# Altium schematic symbol library retroBreadboard_v1i1.SchLib: 11 symbols
Pins are listed as number, name and electrical type; pins without a type are passive.

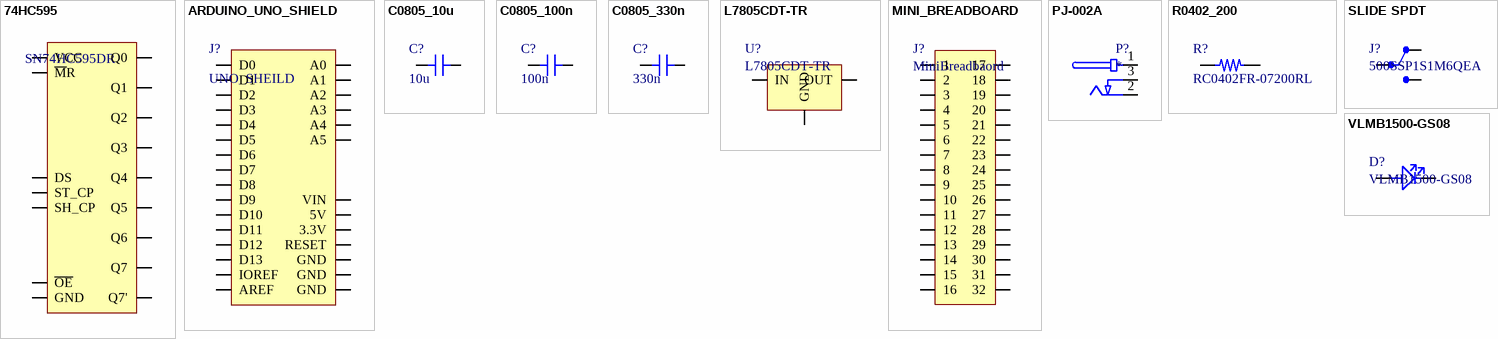
[diagram p0: symbols 74HC595 to VLMB1500-GS08]

## 74HC595
designator U?, comment SN74HC595DR
IC, SM, LOGIC, 74HC, REGISTER; Manufacturer: Texas Instruments; Direction: Unidirectional; Max Supply Voltage: 6V; Min Supply Voltage: 2V; Propagation Delay: 250ns; Logic Function: Shift Register; Number of Elements: 1; Operating Supply Voltage: 5V; Frequency: 42MHz; Number of Circuits: 4; Number of Bits: 8; Number of Output Lines: 10; Max Input Current: 1uA; Quiescent Current: 8uA; Supplier 1: Digi-Key; Manufacturer Part Number: SN74HC595DR; Stock 1: 53061; Mount: Surface Mount; Case/Package: SOIC; Number of Pins: 16; Weight: 0.004998oz; Contact Plating: Gold; Min Operating Temperature: -40°C; Max Operating Temperature: 85°C; Packaging: Tape and Reel; Package Quantity: 2500; Number of Bits per Element: 8; Turn-On Delay Time: 250ns; Termination: SMD/SMT; Length: 9.9mm; Height: 1.58mm; Width: 3.91mm; Radiation Hardening: No; REACH SVHC: No SVHC; Lead Free: Lead Free; ComponentLink1URL: http://www.ti.com/lit/ds/symlink/sn74hc595.pdf; ComponentLink1Description: http://www.ti.com/lit/ds/symlink/sn74hc595.pdf; ComponentLink2URL: http://www.farnell.com/datasheets/1831198.pdf; ComponentLink2Description: http://www.farnell.com/datasheets/1831198.pdf; ComponentLink3URL: http://www.farnell.com/datasheets/1886142.pdf; ComponentLink3Description: http://www.farnell.com/datasheets/1886142.pdf; ComponentLink4URL: https://www.verical.com/server-webapp/html/getDatasheet?partID=134875; ComponentLink4Description: https://www.verical.com/server-webapp/html/getDatasheet?partID=134875; ComponentLink5URL: http://www.farnell.com/datasheets/1905810.pdf; ComponentLink5Description: http://www.farnell.com/datasheets/1905810.pdf; ComponentLink6URL: http://www.ti.com/general/docs/lit/getliterature.tsp?genericPartNumber=SN54HC595-SP&&fileType=pdf; ComponentLink6Description: http://www.ti.com/general/docs/lit/getliterature.tsp?genericPartNumber=SN54HC595-SP&&fileType=pdf; ComponentLink7URL: http://www.jameco.com/Jameco/Products/ProdDS/916385.pdf; ComponentLink7Description: http://www.jameco.com/Jameco/Products/ProdDS/916385.pdf; ComponentLink8URL: http://www.farnell.com/datasheets/2020588.pdf; ComponentLink8Description: http://www.farnell.com/datasheets/2020588.pdf; ComponentLink9URL: http://datasheet.iiic.cc/texas_instruments/SN74HC595DR.pdf; ComponentLink9Description: http://datasheet.iiic.cc/texas_instruments/SN74HC595DR.pdf; Supplier Part Number 1: 296-14857-6-ND; Pricing 1: 1=0.51, 10=0.433, 100=0.323, 500=0.2538, 1000=0.19611 (USD)
footprint SOIC16
pins: 1 Q1, 2 Q2, 3 Q3, 4 Q4, 5 Q5, 6 Q6, 7 Q7, 8 GND, 9 Q7', 10 ~{M}R, 11 SH_CP, 12 ST_CP, 13 ~{OE}, 14 DS, 15 Q0, 16 VCC

## ARDUINO_UNO_SHIELD
designator J?, comment UNO_SHEILD
footprint ARDUINO_UNO_SHIELD
pins: 1 D0, 2 D1, 3 D2, 4 D3, 5 D4, 6 D5, 7 D6, 8 D7, 9 D8, 10 D9, 11 D10, 12 D11, 13 D12, 14 D13, 15 GND, 16 AREF, 17 A5, 18 A4, 19 A3, 20 A2, 21 A1, 22 A0, 23 VIN, 24 GND, 25 GND, 26 5V, 27 3.3V, 28 RESET, 29 IOREF

## C0805_10u
designator C?, comment 10u
Manufacturer: Samsung; Manufacturer Part Number: CL21A106KQFNNNG; Material: Ceramic; Tolerance: 10%; Capacitance: 10uF; Voltage Rating: 6.3V; Dielectric: X5R; Supplier 1: Digi-Key; Stock 1: 53378; RoHS: Yes; Mount: Surface Mount; Case/Package: 0805; Case Code (Metric): 2012; Case Code (Imperial): 0805; Min Operating Temperature: -55°C; Max Operating Temperature: 85°C; Packaging: Tape and Reel; Package Quantity: 3000; Voltage: 6.3V; Length: 2mm; Height: 1.25mm; Width: 0.049inch; Thickness: 0.053inch; Depth: 1.25mm; Lead Free: Lead Free; ComponentLink1URL: http://www.samsungsem.com/kr/support/product-search/mlcc/CL21A106KQFNNNG.jsp?src-supplier=Digi-Key; ComponentLink1Description: http://www.samsungsem.com/kr/support/product-search/mlcc/CL21A106KQFNNNG.jsp?src-supplier=Digi-Key; ComponentLink2URL: https://produktinfo.conrad.com/datenblaetter/450000-474999/454985-da-01-en-VS_KONDENSATOR_0805.pdf?src-supplier=Conrad; ComponentLink2Description: https://produktinfo.conrad.com/datenblaetter/450000-474999/454985-da-01-en-VS_KONDENSATOR_0805.pdf?src-supplier=Conrad; Supplier Part Number 1: 1276-6457-1-ND; Pricing 1: 1 = 0.13000, 10 = 0.09600, 100 = 0.04270, 500 = 0.03054, 1000 = 0.02399 (USD)
footprint C0805
pins: 1, 2

## C0805_100n
designator C?, comment 100n
Manufacturer: Samsung; Manufacturer Part Number: CL21F104ZBCNNNC; Material: Ceramic; Capacitance: 100nF; Tolerance: 80%; Dielectric: Y5V; Voltage Rating: 50V; Supplier 1: Digi-Key; Stock 1: 117334; RoHS: Yes; Mount: Surface Mount; Case/Package: 0805; Case Code (Metric): 2012; Case Code (Imperial): 0805; Min Operating Temperature: -30°C; Max Operating Temperature: 85°C; Packaging: Tape and Reel; Package Quantity: 1; Length: 2mm; Height: 0.85mm; Width: 0.049inch; Thickness: 0.037inch; Depth: 1.25mm; Radiation Hardening: No; ComponentLink1URL: https://www.verical.com/server-webapp/html/getDatasheet?partID=466953&src-supplier=Verical; ComponentLink1Description: https://www.verical.com/server-webapp/html/getDatasheet?partID=466953&src-supplier=Verical; ComponentLink2URL: https://produktinfo.conrad.com/datenblaetter/450000-474999/454191-da-01-en-VS_KONDENSATOR_0805.pdf?src-supplier=Conrad; ComponentLink2Description: https://produktinfo.conrad.com/datenblaetter/450000-474999/454191-da-01-en-VS_KONDENSATOR_0805.pdf?src-supplier=Conrad; Supplier Part Number 1: 1276-1007-1-ND; Pricing 1: 1 = 0.10000, 10 = 0.04400, 100 = 0.01950, 500 = 0.01390, 1000 = 0.01092 (USD)
footprint C0805
pins: 1, 2

## C0805_330n
designator C?, comment 330n
Manufacturer: Samsung; Manufacturer Part Number: CL21B334KAFNNNG; Material: Ceramic; Tolerance: 10%; Capacitance: 330nF; Voltage Rating: 25V; Dielectric: X7R; Supplier 1: Digi-Key; Stock 1: 834; RoHS: Yes; Mount: Surface Mount; Case/Package: 0805; Case Code (Metric): 2012; Case Code (Imperial): 0805; Min Operating Temperature: -55°C; Max Operating Temperature: 125°C; Package Quantity: 3000; Packaging: Tape and Reel; Voltage: 25V; Length: 2mm; Height: 1.25mm; Width: 0.049inch; Thickness: 0.053inch; Depth: 1.25mm; Lead Free: Lead Free; ComponentLink1URL: https://www.distrelec.biz/Web/Downloads/_e/ng/MLCC_CatalogDownload2013_ENG.pdf?mime=application%2Fpdf&src-supplier=Distrelec; ComponentLink1Description: https://www.distrelec.biz/Web/Downloads/_e/ng/MLCC_CatalogDownload2013_ENG.pdf?mime=application%2Fpdf&src-supplier=Distrelec; ComponentLink2URL: http://www.samsungsem.com/global/support/library/product-catalog/__icsFiles/afieldfile/2014/11/13/MLCC.pdf?src-supplier=Digi-Key; ComponentLink2Description: http://www.samsungsem.com/global/support/library/product-catalog/__icsFiles/afieldfile/2014/11/13/MLCC.pdf?src-supplier=Digi-Key; ComponentLink3URL: http://www1.futureelectronics.com/doc/SAMSUNG%20PASSIVE/CL05B104KQ5NNNC.pdf?src-supplier=Future+Electronics; ComponentLink3Description: http://www1.futureelectronics.com/doc/SAMSUNG%20PASSIVE/CL05B104KQ5NNNC.pdf?src-supplier=Future+Electronics; Supplier Part Number 1: 1276-6479-1-ND; Pricing 1: 1 = 0.12000, 10 = 0.08600, 100 = 0.03810, 500 = 0.02722, 1000 = 0.02138 (USD)
footprint C0805
pins: 1, 2

## L7805CDT-TR
designator U?
IC REG LDO 5V 1.5A DPAK; Manufacturer: STMicroelectronics; Dropout Voltage: 2V; Number of Outputs: 1; Max Input Voltage: 35V; Min Input Voltage: 7V; Polarity: Positive; Quiescent Current: 8mA; Power Supply Rejection Ratio (PSRR): 62dB; Supplier 1: Digi-Key; Manufacturer Part Number: L7805CDT-TR; Stock 1: 7500; Mount: Surface Mount; Case/Package: TO-252; Number of Pins: 3; Contact Plating: Tin,Matte; Min Operating Temperature: 0°C; Max Operating Temperature: 125°C; Package Quantity: 1; Packaging: Tape and Reel; Max Output Current: 1.5A; Output Voltage: 5V; Output Current: 1.5A; Number of Regulators: 1; Min Output Voltage: 5V; Length: 6.6mm; Height: 2.4mm; Width: 6.2mm; Radiation Hardening: No; Lead Free: Lead Free; ComponentLink1URL: https://datasheet.ciiva.com/2042/cd00000444-2042784.pdf; ComponentLink1Description: https://datasheet.ciiva.com/2042/cd00000444-2042784.pdf; ComponentLink2URL: https://datasheet.ciiva.com/2042/cd00000444-2042785.pdf; ComponentLink2Description: https://datasheet.ciiva.com/2042/cd00000444-2042785.pdf; ComponentLink3URL: https://datasheet.ciiva.com/16357/cd00000444-16357893.pdf; ComponentLink3Description: https://datasheet.ciiva.com/16357/cd00000444-16357893.pdf; ComponentLink4URL: https://datasheet.ciiva.com/4882/cd00000444-4882231.pdf; ComponentLink4Description: https://datasheet.ciiva.com/4882/cd00000444-4882231.pdf; ComponentLink5URL: https://datasheet.ciiva.com/17360/cd00000444-17360220.pdf; ComponentLink5Description: https://datasheet.ciiva.com/17360/cd00000444-17360220.pdf; ComponentLink6URL: https://datasheet.ciiva.com/2042/cd00000444-2042783.pdf; ComponentLink6Description: https://datasheet.ciiva.com/2042/cd00000444-2042783.pdf; ComponentLink7URL: https://datasheet.ciiva.com/26904/l7805cdt-tr-26904768.pdf; ComponentLink7Description: https://datasheet.ciiva.com/26904/l7805cdt-tr-26904768.pdf; Supplier Part Number 1: 497-7255-2-ND
footprint DPAK (D-PAK, 3-Pads, Body 6.10x6.56mm (max), IPC Medium Density)
pins: 1 IN, 3 OUT, 4 GND

## MINI_BREADBOARD
designator J?, comment MiniBreadbaord
Mini Breadboard; Manufacturer: TE Connectivity AMP; Manufacturer Part Number: 1738132-1; Gender: Male; Supplier 1: Digi-Key; Stock 1: 0; Colour: Natural; ComponentLink1URL: http://www.te.com/commerce/DocumentDelivery/DDEController?Action=srchrtrv&DocNm=1738132&DocType=Customer+Drawing&DocLang=English; ComponentLink1Description: http://www.te.com/commerce/DocumentDelivery/DDEController?Action=srchrtrv&DocNm=1738132&DocType=Customer+Drawing&DocLang=English; Supplier Part Number 1: 1738132-1-ND
footprint MINI_BREADBOARD HOLE
pins: 1, 2, 3, 4, 5, 6, 7, 8, 9, 10, 11, 12, 13, 14, 15, 16, 17, 18, 19, 20, 21, 22, 23, 24, 25, 26, 27, 28, 29, 30, 31, 32

## PJ-002A
designator P?
PJ-002 Series 2 x 6.5 mm 16 V Right Angle Through Hole Power Jack; Manufacturer: CUI; Manufacturer Part Number: PJ-002A; Gender: Male; Shielding: Unshielded; Current Rating: 2.5A; Voltage Rating: 24V; Insulation Resistance: 50MR; Number of Conductors: 2; Supplier 1: Digi-Key; Stock 1: 133077; Mount: Through Hole; Contact Material: Copper,Copper Alloy; Contact Plating: Nickel,Tin; Housing Colour: Black; Housing Material: Thermoplastic; Colour: Black; Min Operating Temperature: -25°C; Max Operating Temperature: 85°C; Termination: Through Hole; Connector Type: Jack; Packaging: Bulk; Package Quantity: 500; Contact Gender: Male; Orientation: Horizontal; Diameter: 2.1mm; Lead Free: Lead Free; Flammability Rating: UL94 V-0; ComponentLink1URL: http://www.cui.com/product/resource/digikeypdf/pj-002a.pdf; ComponentLink1Description: http://www.cui.com/product/resource/digikeypdf/pj-002a.pdf; ComponentLink2URL: http://www.cui.com/Product/Resource/FuturePDF/PJ-002A.pdf; ComponentLink2Description: http://www.cui.com/Product/Resource/FuturePDF/PJ-002A.pdf; ComponentLink3URL: http://www.mouser.com/ds/2/670/pj-002a-515880.pdf; ComponentLink3Description: http://www.mouser.com/ds/2/670/pj-002a-515880.pdf; Supplier Part Number 1: CP-002A-ND
footprint PJ-002A (CONN PWR JACK 2X5.5MM SOLDER)
pins: 1, 2 3, 3 2

## R0402_200
designator R?, comment RC0402FR-07200RL
RES SMD 200 OHM 1% 1/16W 0402; Manufacturer: Yageo; Resistance: 200R; Power Rating: 63mW; Voltage Rating: 50V; Temperature Coefficient: 100ppm/°C; Supplier 1: Digi-Key; Manufacturer Part Number: RC0402FR-07200RL; Stock 1: 7546584; RoHS: Yes; Case/Package: 0402; Case Code (Metric): 1005; Case Code (Imperial): 0402; Min Operating Temperature: -55°C; Max Operating Temperature: 155°C; Tolerance: 1%; Packaging: Tape and Reel; Package Quantity: 1; Composition: Thick Film; Number of Terminations: 2; Termination: SMD/SMT; Military Standard: Not; Max Power Dissipation: 63mW; Voltage Rating (DC): 50V; Features: Moisture Resistant; Length: 1mm; Height: 0.016inch; Width: 0.02inch; Depth: 0.5mm; REACH SVHC: No SVHC; Lead Free: Lead Free; ComponentLink1URL: http://www.yageo.com/documents/recent/PYu-RC_Group_51_RoHS_L_10.pdf?src-supplier=Digi-Key; ComponentLink1Description: http://www.yageo.com/documents/recent/PYu-RC_Group_51_RoHS_L_10.pdf?src-supplier=Digi-Key; ComponentLink2URL: http://www.farnell.com/datasheets/1018594.pdf?src-supplier=Element14; ComponentLink2Description: http://www.farnell.com/datasheets/1018594.pdf?src-supplier=Element14; ComponentLink3URL: http://www.yageo.com/documents/recent/PYu-RC0402_51_RoHS_L_6_r.pdf?src-supplier=Future+Electronics; ComponentLink3Description: http://www.yageo.com/documents/recent/PYu-RC0402_51_RoHS_L_6_r.pdf?src-supplier=Future+Electronics; ComponentLink4URL: https://www.verical.com/server-webapp/html/getDatasheet?partID=331152&src-supplier=Verical; ComponentLink4Description: https://www.verical.com/server-webapp/html/getDatasheet?partID=331152&src-supplier=Verical; ComponentLink5URL: http://www.farnell.com/datasheets/2167052.pdf?src-supplier=Element14; ComponentLink5Description: http://www.farnell.com/datasheets/2167052.pdf?src-supplier=Element14; ComponentLink6URL: http://www.yageo.com/documents/recent/PYu-RC0402_51_RoHS_L_6_r.pdf?src-supplier=Mouser; ComponentLink6Description: http://www.yageo.com/documents/recent/PYu-RC0402_51_RoHS_L_6_r.pdf?src-supplier=Mouser; Supplier Part Number 1: 311-200LRCT-ND; Pricing 1: 1 = 0.10000, 10 = 0.01600, 100 = 0.00670, 1000 = 0.00301, 2500 = 0.00261, 5000 = 0.00215 (USD)
footprint RES0402
pins: 1, 2

## SLIDE SPDT
designator J?, comment 500SSP1S1M6QEA
SWITCH SLIDE SPDT 5A 120V; Manufacturer: E-Switch; Mechanical Life: 30000Cycles; Actuator Material: Nylon,Polyamide; Max Voltage Rating (AC): 250V; Voltage Rating (DC): 28V; Contact Resistance: 10mR; Switch Travel: 2.16mm; Switch Function: On-On; Actuator Length: 4.72mm; Supplier 1: Digi-Key; Manufacturer Part Number: 500SSP1S1M6QEA; Stock 1: 6111; Mount: Through Hole,Brackets; Contact Plating: Silver; Contact Material: Copper,Silver,Copper Alloy; Housing Material: Stainless Steel; Min Operating Temperature: -30°C; Max Operating Temperature: 85°C; Contact Current Rating: 5A; Voltage Rating (AC): 120V; Throw Configuration: SPDT; Package Quantity: 1; Packaging: Bulk; Current Rating: 5A; Max Voltage Rating (DC): 28V; Termination: PC Pin; Electrical Life: 30000Cycles; Orientation: Right Angle; REACH SVHC: Unknown; Lead Free: Lead Free; Flammability Rating: UL94 V-0; ComponentLink1URL: https://datasheet.ciiva.com/16337/500-16337624.pdf; ComponentLink1Description: https://datasheet.ciiva.com/16337/500-16337624.pdf; ComponentLink2URL: https://datasheet.ciiva.com/16174/35500-16174234.pdf; ComponentLink2Description: https://datasheet.ciiva.com/16174/35500-16174234.pdf; ComponentLink3URL: https://datasheet.ciiva.com/2889/t511006d-2889419.pdf; ComponentLink3Description: https://datasheet.ciiva.com/2889/t511006d-2889419.pdf; Supplier Part Number 1: EG2478-ND; Pricing 1: 1=2.93, 10=2.808, 25=2.7484, 50=2.39, 100=2.3303, 250=2.27052, 500=1.912, 1000=1.7925, 5000=1.64313 (USD)
footprint SLIDE SPDT (500SSP1S1M6QEA)
pins: 1, 2, 3

## VLMB1500-GS08
designator D?
Standard LEDs - SMD 0402 BLUE Non-Diff; Manufacturer: Vishay; Lens Colour: Clear; Luminous Intensity: 45mcd; Forward Current: 30mA; Viewing Angle: 130°; Forward Voltage: 3.15V; Dominant Wavelength: 470nm; Test Current: 5mA; Number of Elements: 1; Power Dissipation: 76mW; Lens Style: Rectangular; Power Rating: 75mW; Supplier 1: Digi-Key; Manufacturer Part Number: VLMB1500-GS08; Stock 1: 322508; Mount: Surface Mount; Case/Package: 0402; Number of Pins: 2; Colour: Blue; Case Code (Metric): 1005; Case Code (Imperial): 0402; Contact Plating: Matte,Tin; Min Operating Temperature: -30°C; Max Operating Temperature: 80°C; Packaging: Tape and Reel; Package Quantity: 1; Illumination Colour: Blue; Max Power Dissipation: 76mW; Number of LEDs: 1; Length: 1mm; Height: 0.35mm; Width: 0.5mm; Depth: 0.5mm; Radiation Hardening: No; REACH SVHC: Unknown; Lead Free: Lead Free; ComponentLink1URL: http://www.vishay.com/docs/82554/vlmo1500.pdf; ComponentLink1Description: http://www.vishay.com/docs/82554/vlmo1500.pdf; Supplier Part Number 1: VLMB1500-GS08DKR-ND; Pricing 1: 1=0.41, 10=0.292, 25=0.2532, 100=0.1949, 250=0.15836, 500=0.11696, 1000=0.09746 (USD)
footprint VLMB1500-GS08
pins: 1 A, 2 K